# EAGLE library part MICRO-HDMI (library 1-LDA_Board)
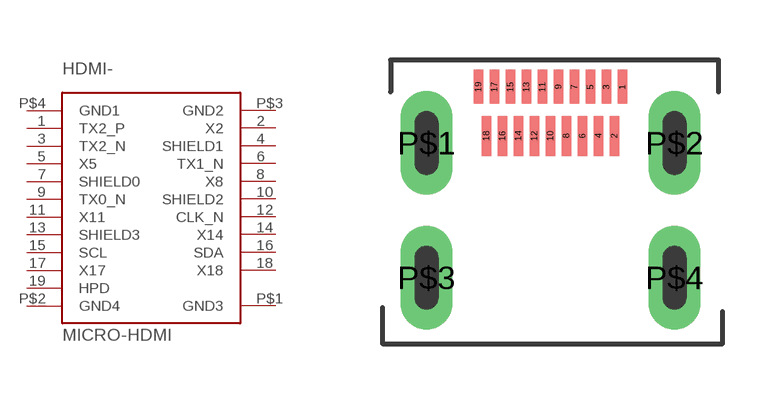
[diagram p8: symbol with the pads of HDMI; footprint HDMI]

Designator prefix HDMI-

## MICRO-HDMI  [HDMI]
1  TX2_P
2  X2
3  TX2_N
4  SHIELD1
5  X5
6  TX1_N
7  SHIELD0
8  X8
9  TX0_N
10  SHIELD2
11  X11
12  CLK_N
13  SHIELD3
14  X14
15  SCL
16  SDA
17  X17
18  X18
19  HPD
P$1  GND3
P$2  GND4
P$3  GND2
P$4  GND1

## Footprint HDMI (pad centres in mm)
smd 0.23 x 0.85: 1 1.8,1.225; 3 1.4,1.225; 5 1,1.225; 7 0.6,1.225; 9 0.2,1.225; 11 -0.2,1.225; 13 -0.6,1.225; 15 -1,1.225; 17 -1.4,1.225; 19 -1.8,1.225
smd 0.23 x 1: 2 1.6,0; 4 1.2,0; 6 0.8,0; 8 0.4,0; 10 0,0; 12 -0.4,0; 14 -0.8,0; 16 -1.2,0; 18 -1.6,0
drill 0.6 pad 1.3 long: P$1 -3.1,-0.18; P$2 3.1,-0.18; P$3 -3.1,-3.55; P$4 3.1,-3.55